# EAGLE library part MPU-6000 (library biomimetic)
MPU-6000 3-axis gyro + 3-axis accelerometer, SPI/I2C interface with auxiliary I2C interface for magnetometer
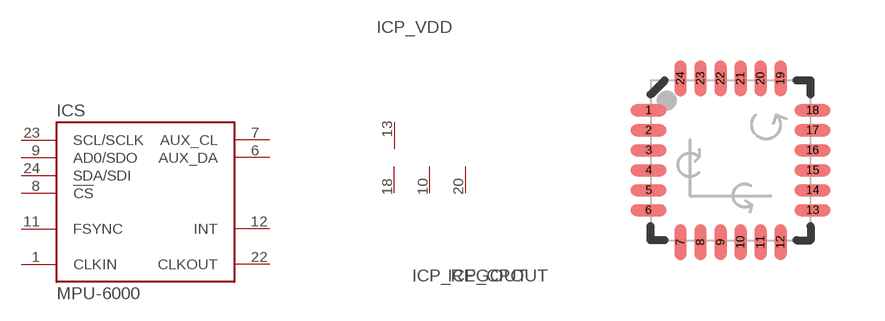
[diagram p0: symbol with the pads of QFN-24; footprint QFN-24]

Designator prefix IC; gates S=MPU-6000 P_VDD=V+- P_REGOUT=V- P_CPOUT=V-

## MPU-6000  [QFN-24]
1  S:CLKIN
6  S:AUX_DA
7  S:AUX_CL
8  S:!CS
9  S:AD0/SDO
10  P_REGOUT:V-  pwr
11  S:FSYNC
12  S:INT
13  P_VDD:V+  pwr
18  P_VDD:V-  pwr
20  P_CPOUT:V-  pwr
22  S:CLKOUT
23  S:SCL/SCLK
24  S:SDA/SDI

## Footprint QFN-24 (pad centres in mm)
smd 0.9 x 0.3: 1 -2.05,1.25; 2 -2.05,0.75; 3 -2.05,0.25; 4 -2.05,-0.25; 5 -2.05,-0.75; 6 -2.05,-1.25; 13 2.05,-1.25; 14 2.05,-0.75; 15 2.05,-0.25; 16 2.05,0.25; 17 2.05,0.75; 18 2.05,1.25
smd 0.3 x 0.9: 7 -1.25,-2.05; 8 -0.75,-2.05; 9 -0.25,-2.05; 10 0.25,-2.05; 11 0.75,-2.05; 12 1.25,-2.05; 19 1.25,2.05; 20 0.75,2.05; 21 0.25,2.05; 22 -0.25,2.05; 23 -0.75,2.05; 24 -1.25,2.05